# Altium footprint library DO15.PcbLib: 1 footprints
Each footprint in its own frame and in the unit in brackets; x right, y up, seen from the top. Pads: shape width x height; smd on the part's side, far side on the other; paste and mask are expansions set on the pad; w line width, h text height; cw(c..) or ccw(c..) is an arc to the next point about the centre after c.
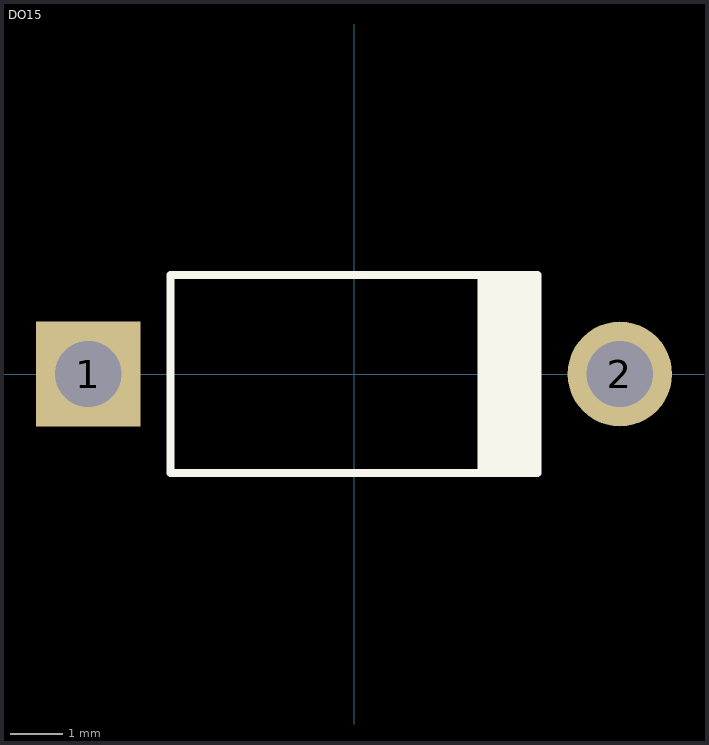
[diagram p0: the footprint, top view; thin cyan lines are the x and y axes]

## DO15 [mm]
pads (2):
  rect 2x2 hole 1.27 mask+0: 1(-5.08,0)
  round 2 hole 1.27 mask+0: 2(5.08,0)
Top Overlay:
  rectangle: 2.362,-1.892 3.505,1.892
  lines w0.152: -3.505,-1.892 -3.505,1.892 3.505,1.892 3.505,-1.892 -3.505,-1.892
3D body: height 0.25, standoff 0, extent -5.08,0 -4.826,0.254
3D body "DO-15.step": height 3.53, standoff -2.54, extent -5.524,-1.768 5.524,1.768